# Altium schematic symbol library Loadcell.SCHLIB: 20 symbols
Pins are listed as number, name and electrical type; pins without a type are passive.

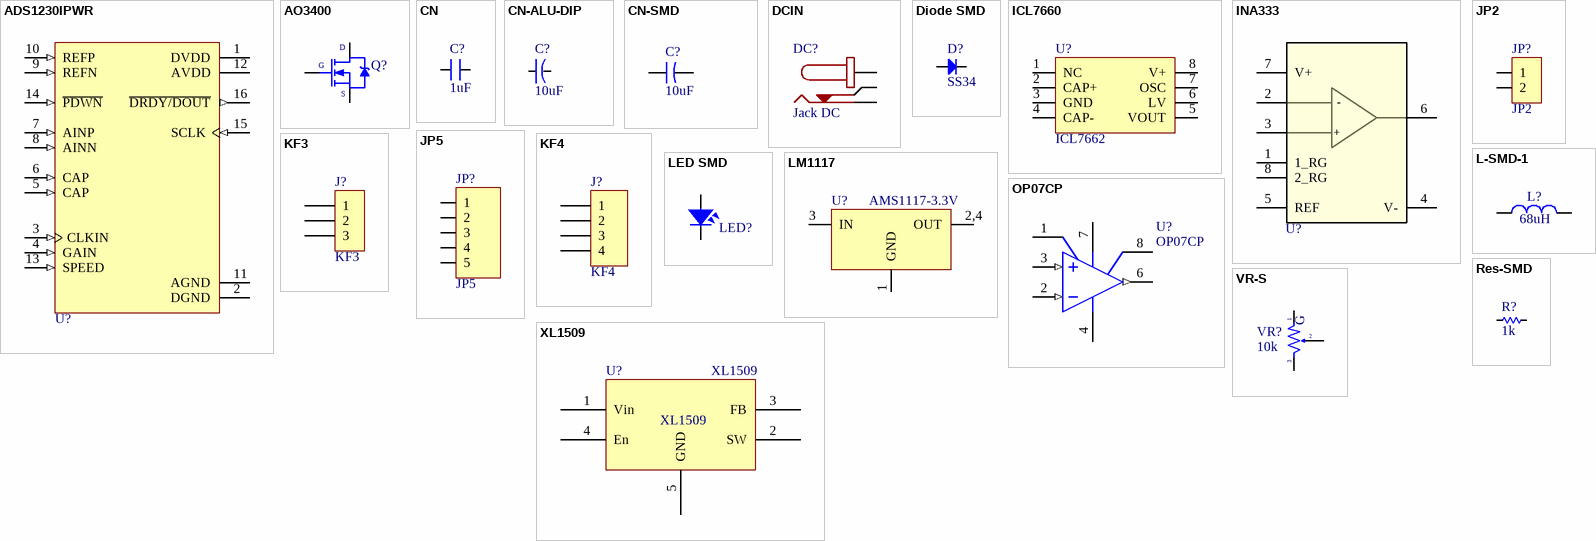
[diagram p0: symbols ADS1230IPWR to XL1509]

## ADS1230IPWR
designator U?  (value not drawn)
footprint TSSOP16 (TSSOP, 16-Leads, Body 5.10x4.40mm, Pitch 0.65mm, IPC High Density)
pins: 1 DVDD (power), 2 DGND (power), 3 CLKIN (in), 4 GAIN (in), 5 CAP (in), 6 CAP (in), 7 AINP (in), 8 AINN (in), 9 REFN (in), 10 REFP (in), 11 AGND (power), 12 AVDD (power), 13 SPEED (in), 14 ~{PDWN} (in), 15 SCLK (in), 16 ~{DRDY/DOUT} (out)

## AO3400
designator Q?  (value not drawn)
N-MOS 30V 5.8A
footprint SOT23-123 (SOT23, 1=bottom-left, 2=top, 3=bottom-right)
pins: 1 G, 2 D, 3 S

## CN
designator C?, comment 1uF
Value: 33pF
footprint CN1.5
footprint CN1
footprint CN2.5 (Tu pin to pin 250mil)
footprint CN3 (Cap np W 0.3)
footprint CN-SMD-0603
footprint CN-SMD-0805
footprint CN-SMD-0402
footprint CN-SMD-1206
footprint CN-SMD-2520 (TOKO INDUCTOR DFE252012 SERIES)
footprint CN-SMD-3225 (Chip Capacitor, Body 3.2x2.5mm, IPC Medium Density)
footprint CN2-T
footprint CN2-G
footprint CN0.8
footprint CN1-TA
footprint CN2-B
footprint CN2-LT
footprint CN2-O
footprint CN2-R
footprint CN2.5-BR (Tu pin to pin 250mil)
footprint CN2.5-R (Tu pin to pin 250mil)
footprint CN2.5-RV (Tu pin to pin 250mil)
footprint CN3.5 (Cap np W 0.3)
footprint CN4
footprint CN7 (Cap np W 0.3)
footprint CN3-B (Cap np W 0.3)
footprint CN7-B (Cap np W 0.3)
footprint CN7-N (Cap np W 0.3)
footprint CN7-Y (Cap np W 0.3)
footprint CN15 (Cap np W 0.3)
pins: 1, 2

## CN-ALU-DIP
designator C?, comment 10uF
Capacitor (Semiconductor SIM Model); Value: 104; LatestRevisionDate: 17-Jul-2002; LatestRevisionNote: Re-released for DXP Platform.; PackageReference: C1206; Publisher: Altium Limited
footprint CA-ALU-2.54
footprint CA-ALU-5 (Polarized capacitors, Aluminum Electrolytic Capacitors, 2-Leads, Body 5x11x2x0.5)
footprint CA-ALU-5B (Polarized capacitors, Aluminum Electrolytic Capacitors, 2-Leads, Body 5x11x2x0.5)
footprint CA-ALU-5L (Polarized capacitors, Aluminum Electrolytic Capacitors, 2-Leads, Body 5x11x2x0.5)
footprint CA-ALU-5R
footprint CA-ALU-5W (Tu hoa < 22uF/16>50V)
footprint CA-ALU-6.3 (Polarized capacitors, Aluminum Electrolytic Capacitors, 2-Leads, Body 6.3x15x2.5x0.5)
footprint CA-ALU-8 (Polarized capacitors, Aluminum Electrolytic Capacitors, 2-Leads, Body 8x16x3.5x0.5)
footprint CA-ALU-8R (Polarized capacitors, Aluminum Electrolytic Capacitors, 2-Leads, Body 8x16x3.5x0.5)
footprint CA-ALU-10 (Polarized capacitors, Aluminum Electrolytic Capacitors, 2-Leads, Body 10x20x5x0.6)
footprint CA-ALU-10R (Polarized capacitors, Aluminum Electrolytic Capacitors, 2-Leads, Body 10x20x5x0.6)
footprint CA-ALU-10RL (Polarized capacitors, Aluminum Electrolytic Capacitors, 2-Leads, Body 10x20x5x0.6)
footprint CA-ALU-13BL (Polarized capacitors, Aluminum Electrolytic Capacitors, 2-Leads, Body 13x35x5x0.6)
footprint CA-ALU-13R (Polarized capacitors, Aluminum Electrolytic Capacitors, 2-Leads, Body 13x35x5x0.6)
footprint CA-ALU-16 (Polarized capacitors, Aluminum Electrolytic Capacitors, 2-Leads, Body 16x21x7.5x0.8)
footprint CA-ALU-16H (Polarized capacitors, Aluminum Electrolytic Capacitors, 2-Leads, Body 16x31.5x7.5x0.8)
footprint CA-ALU-18 (Polarized capacitors, Aluminum Electrolytic Capacitors, 2-Leads, Body 18x35.5x7.5x0.8)
footprint CA-ALU-18BL (Polarized capacitors, Aluminum Electrolytic Capacitors, 2-Leads, Body 18x35.5x7.5x0.8)
footprint CA-ALU-18RH (Polarized capacitors, Aluminum Electrolytic Capacitors, 2-Leads, Body 18x35.5x7.5x0.8)
footprint CA-ALU-25 (Polarized capacitors, Aluminum Electrolytic Capacitors, 2-Leads, Body 22x41x10x0.8)
footprint CA-ALU-28 (Polarized capacitors, Aluminum Electrolytic Capacitors, 2-Leads, Body 22x41x10x0.8)
footprint CA-ALU-30 (Polarized capacitors, Aluminum Electrolytic Capacitors, 2-Leads, Body 22x41x10x0.8)
footprint CA-ALU-35L (Polarized capacitors, Aluminum Electrolytic Capacitors, 2-Leads, Body 22x41x10x0.8)
footprint CA-ALU-4 (Polarized capacitors, Aluminum Electrolytic Capacitors, 2-Leads, Body 5x11x2x0.5)
footprint CA-ALU-6.3R (Polarized capacitors, Aluminum Electrolytic Capacitors, 2-Leads, Body 6.3x15x2.5x0.5)
footprint CA-ALU-10BL (Polarized capacitors, Aluminum Electrolytic Capacitors, 2-Leads, Body 10x20x5x0.6)
footprint CA-ALU-10GR (Polarized capacitors, Aluminum Electrolytic Capacitors, 2-Leads, Body 10x20x5x0.6)
footprint CA-ALU-18R (Polarized capacitors, Aluminum Electrolytic Capacitors, 2-Leads, Body 18x35.5x7.5x0.8)
footprint CA-ALU-28R (Polarized capacitors, Aluminum Electrolytic Capacitors, 2-Leads, Body 22x41x10x0.8)
footprint CA-ALU-10 NGANG (Polarized capacitors, Aluminum Electrolytic Capacitors, 2-Leads, Body 10x20x5x0.6)
footprint CAP-ALU-SMD-4.5x5x1.4
footprint CA-ALU-8 (Polarized capacitors, Aluminum Electrolytic Capacitors, 2-Leads, Body 8x16x3.5x0.5)
footprint CAP-ALU-SMD-F
pins: 1, 2

## CN-SMD
designator C?, comment 10uF
Polarized Capacitor (Axial); Published: 8-Jun-2000; LatestRevisionDate: 17-Jul-2002; LatestRevisionNote: Re-released for DXP Platform.; PackageReference: POLAR0.8; Publisher: Altium Limited
footprint CAP-ALU-SMD-4.5x5x1.4
footprint CAP-ALU-SMD-5x5.5x1.4
footprint CAP-ALU-SMD-5.5x5.5
footprint CAP-ALU-SMD-6.3x7.7x2.2
footprint CAP-ALU-SMD-C
footprint CAP-ALU-SMD-D
footprint CAP-ALU-SMD-F
footprint CAP-ALU-SMD-G
footprint CAP-ALU-SMD-H
footprint CAP-ALU-SMD-J
footprint CAP-ALU-SMD-K
footprint Tantalum 1206 (Tatalum capacitor 1206)
footprint Tantalum 1210 (Tatalum capacitor 1210)
footprint Tantalum 2312 (Tatalum capacitor 2312)
footprint Tantalum 2917 (Tatalum capacitor 2917)
pins: 1, 2
1 alternate drawing of the same symbol

## DCIN
designator DC?, comment Jack DC
Jack DC input; Value: Jac DC
footprint DC0 (Jac DC input)
footprint DC1 (WR-DC_DC Power Jack_Right Angled_THT Center Pin ?0.65_Plug ID ?0.75_Plug OD ?2.35_with Peg)
footprint DC2 (WR-DC_DC Power Jack_Vertical_THT WR-DC_DC Power Jack_Vertical_THT)
footprint DC3 (WR-DC_DC Power Jack_Vertical_THT Center Pin ?2.5_Plug ID ?2.55_Plug OD ?5.5)
footprint DC4 (WR-DC_DC Power Jack_Right Angled_THT Center Pin ?1.0_Plug ID ?1.05_Plug OD ?3.5_with Peg)
footprint DC5 (WR-DC_DC Power Jack_Right Angled_THT Center Pin ?1.3_Plug ID ?1.35_Plug OD ?3.5_with Peg)
footprint DC050
pins: 1 S (power) "Sleeve (Ground)", 2 TN "Tip Normal (Break Contact)", 3 T "Tip"

## Diode SMD
designator D?, comment SS34
Default Diode; Code - JEDEC: DO-214-AB; Value: 1N5007; Published: 8-Jun-2000; Revision: July-2002: Re-released for DXP Platform.; Publisher: Altium Limited
footprint DIO-SMD-106
footprint DIO-SMD-123
footprint DIO-SMD-A
footprint DIO-SMD-B (Magnetic-Core Inductor with Winding Polarity Marking; 2 Leads)
footprint DIO-SMD-216AA (DO216AA ST-MITE)
footprint DIO-SMD-222AA (DO216AA ST-MITE)
footprint DIO-SMD-C
pins: 1 A, 2 K

## ICL7660
designator U?, comment ICL7662
CMOS Voltage Converters; Creator: Nguyen Ba Bien
footprint DIP8
footprint SO8 (SOIC, 8-Leads, Body 4.9x3.9mm, Pitch 1.27mm, IPC High Density)
pins: 1 NC, 2 CAP+, 3 GND, 4 CAP-, 5 VOUT, 6 LV, 7 OSC, 8 V+

## INA333
designator U?, comment Rail-to-Rail Out Instrumentation Amplifier  (value not drawn)
footprint VSSOP8
pins: 1 1_RG, 2 VIN- (hiz), 3 VIN+ (hiz), 4 V- (power), 5 REF, 6 VOUT, 7 V+ (power), 8 2_RG
text: -; +

## JP2
designator JP?
WR-PHD 2.54 mm Angled Socket Header; Manufacturer: W¨¹rth Elektronik eiSos GmbH; partNo: 613002143121; ComponentLink1 Description: Manufacturer; ComponentLink2 Description: Datasheet; NoPins: 02; Created Date: 29 March 2013; ComponentLink1URL: http://www.we-online.com; ComponentLink2URL: http://katalog.we-online.de/em/datasheet/6130xx143121.pdf; Created by: Karrer Zheng
footprint JP2-C1T (2 row, straight, gold plating)
footprint JP2-CLOSED
footprint JP2-C1C (02p 1 row Right angle)
footprint JP2-D1C (2 pins, 1 row, right angled, gold plating)
footprint JP2-D1T (2 pins, 1 row, straight, gold plating)
pins: 1, 2

## JP5
designator JP?
WR-PHD 2.54 mm Angled Socket Header; Manufacturer: W¨¹rth Elektronik eiSos GmbH; partNo: 613005143121; ComponentLink1 Description: Manufacturer; ComponentLink2 Description: Datasheet; NoPins: 05; Created Date: 29 March 2013; ComponentLink1URL: http://www.we-online.com; ComponentLink2URL: http://katalog.we-online.de/em/datasheet/6130xx143121.pdf; Created by: Karrer Zheng
footprint JP5-C1T (5 row, straight, gold plating)
footprint JP5-D1C (5 pins, 1 row, right angled, gold plating)
footprint JP5-C1C (05p 1 row Right angle)
footprint JP5-D1T (5 pins, 1 row, straight, gold plating)
pins: 1, 2, 3, 4, 5

## KF3
designator J?
Manufacturer: Würth Elektronik eiSos GmbH; partNo: 691103110003; ComponentLink1 Description: Manufacturer; ComponentLink2 Description: Datasheet; NoPins: 3; Created Date: 29 October 2013; ComponentLink1URL: http://www.we-online.com; ComponentLink2URL: http://katalog.we-online.de/em/datasheet/6911031100xx.pdf; Created by: Karrer Zheng
footprint KF3-5.08
footprint KF3-10 (Serie 1368 - 10.00 mm _ 3 pins)
footprint KF3-3.5 (3,50mm - modular - blue - Horizontal wire entry - Pressure clamp - 8,4mm height - 03p)
footprint KF3-3.96-T1 (3,96mm - modular - blue - Horizontal wire entry - Pressure clamp - 10mm height - 03p)
footprint KF3-8.5
footprint KF3-5.08T (Header 3, 3 pin, hight 300mil, Pin to Pin 200, Colour Green)
footprint KF3-7.62
footprint KF128-3P
footprint 2EDGR-3P
footprint 2EDGV-3P
pins: 1, 2, 3

## KF4
designator J?
Manufacturer: W¨¹rth Elektronik eiSos GmbH; PartNo: 691133710004; ComponentLink1 Description: Manufacturer; ComponentLink2 Description: Datasheet; NoPins: 4; ComponentLink1 URL: http://www.we-online.com; ComponentLink2 URL: http://katalog.we-online.de/em/datasheet/6911337100xx.pdf; Created By: Baojun Chen; Created Date: 4-Aug-15
footprint KF4-5.08
footprint KF4-10 (Serie 1368 - 10.00 mm _ 4 pins)
footprint KF4-5 (Serie 1337 - 5.00 mm_4 pins)
footprint KF4-8.5
footprint KF4-5.08T (Header 4, 4 pin, hight 300mil, Pin to Pin 200, Colour Green)
footprint KF4-7.62
footprint KF128-4P
footprint 2EDGR-4P
footprint 2EDGV-4P
pins: 1, 2, 3, 4

## L-SMD-1
designator L?, comment 68uH
partNo: 78477010; Manufacturer: Wurth Elektronik; Inductance: 1.0 μH; ComponentLink1Description: Manufacturer; ComponentLink1URL: http://www.we-online.de; Created by: Baojun Chen; Created Date: Nov.2015; ComponentLink2Description: Datasheet; ComponentLink2URL: http://katalog.we-online.de/pbs/datasheet/78477010.pdf
footprint PSM1040 (10x10x4mm)
footprint L-SMD-M-7.3x4.5 (WE-PDA SMD Shielded Power Inductor, 7345)
footprint L-SMD-M-6x6
footprint L-SMD-M-12x10 (WE-PDA SMD Shielded Power Inductor, 1210)
footprint L-SMD-M-12x8
footprint L-SMD-M-10x10
footprint L-SMD-0630 (6.6x6.6)
footprint L-SMD-M-12x12 (WE-PDA SMD Shielded Power Inductor, 1212)
footprint CD54 (5.8 x 5.2 x 4.5 mm)
footprint CD43 (4.5 x 4 x 3.5 mm)
footprint CD73 (7.8 x 7.5 x 3.8 mm)
footprint CD75 (7.8 x 7.5 x 5.2 mm)
footprint CD104 (10 x 9 x 4.2 mm)
footprint CD105 (10 x 9 x 5.8 mm)
pins: 1, 2

## LED SMD
designator LED?, comment LED  (value not drawn)
Value: LED 3 - 5 ly 2 Colour
footprint LED 3512; pin to pad 2>1
footprint LED-0805-Blue
footprint LED-0805-Green
footprint LED-0805-Orange
footprint LED-1206-Blue (Compoment SMD 120x60mil)
footprint LED-0805-Yellow
footprint LED-0805-Red
footprint LED-1206-Green
footprint LED-1206-Orange
footprint LED-1206-Red
footprint LED-1206-Yellow
footprint LED-BLUE 0805
footprint LED-GREEN-0805
footprint LED-ORANGE-0805
footprint LED-RED-0805
footprint LED-WHITE-0805
footprint LED-YELLOW-0805
footprint Led 1W (Led 1,3,5W); pin to pad 2>1
footprint Led 5730 (0.5W led)
footprint LED 3528 USD
footprint LED-0603-Blue
footprint LED-0603-GREEN
footprint LED-0603-ORANGE
footprint LED-0603-RED
footprint LED-0603-YELLOW
footprint LED 3030 BLUE
footprint LED 3030 GREEN
footprint LED 3030 RED
footprint LED 3030 WHITE
footprint LED 3030 YELLOW
pins: 1, 2

## LM1117
designator U?, comment AMS1117-3.3V
800mA Low-Dropout Linear Regulator; Creator: Nguyen Ba Bien; Website: http://group3i.net
footprint SOT223
footprint TO220H1 (TO-220 - 1-2-3)
footprint TO220-123 (TO-220 - 1-2-3)
footprint TO220H2 (TO-220 - 1-2-3)
footprint TO220NH (TO-220 - 1-2-3)
footprint TO220H3 (TO-220 1-2-3)
footprint SOT89-123 (SOT89, 3-Leads, Body 4.55x2.55mm, Pitch 1.50mm, Lead Span 4.1mm, IPC Medium Density)
pins: 1 GND, 2,4 OUT, 3 IN

## OP07CP
designator U?
Ultra-Low Offset Voltage Operational Amplifier; Note: Pin 5 is not connected.; Published: 8-Jun-2000; LatestRevisionDate: 04-Mar-2005; LatestRevisionNote: Stylized 3D Model Added.; DatasheetVersion: 1992; PackageReference: N-8_A; Publisher: Altium Limited; PackageDescription: DIP; 8 Leads; Row Spacing 7.62 mm; Pitch 2.54 mm; Code_JEDEC: MO-001-AN; ComponentLink1Description: Manufacturer Link; ComponentLink1URL: http://www.analog.com/en/prod/0,,759_786_OP07%2C00.html; ComponentLink2Description: Datasheet; ComponentLink2URL: http://www.analog.com/UploadedFiles/Data_Sheets/39161232478959OP07_c.pdf
footprint DIP8
footprint SO8 (SOIC, 8-Leads, Body 4.9x3.9mm, Pitch 1.27mm, IPC High Density)
pins: 1 VOSTRIM, 2 IN- (in), 3 IN+ (in), 4 V- (power), 6 OUT (out), 7 V+ (power), 8 VOSTRIM

## Res-SMD
designator R?, comment 1k
Resistor; Manufacturer: Generic Components; Class: Passive; Published: 08/06/2000; Publisher: Altium Hobart Technology Centre
footprint RES-SMD-0101
footprint RES-SMD-0201
footprint RES-SMD-0603
footprint RES-SMD-0805
footprint RES-SMD-1206
footprint RES-SMD-1210 (Chip Capacitor, Body 3.2x2.5mm, IPC Medium Density)
footprint RES-SMD-1812 (Chip Capacitor, Body 3.2x2.5mm, IPC Medium Density)
footprint RES-SMD-2010 (Chip Capacitor, Body 3.2x2.5mm, IPC Medium Density)
footprint RES-SMD-2512 (Chip Capacitor, Body 3.2x2.5mm, IPC Medium Density)
footprint RES-SMD-0402
pins: 1, 2

## VR-S
designator VR?, comment 10k
Var Resistor; Value: Volume 50k
footprint VR-S4
footprint VR-S1
footprint VR-S2 (Resistor Variable)
footprint VR-S3 (Variable Resistor)
footprint VR 3x3
footprint RK097
footprint VR-S5 (3386P)
pins: 1, 2, 3
text: G

## XL1509
designator U?
footprint SO8 (SOIC, 8-Leads, Body 4.9x3.9mm, Pitch 1.27mm, IPC High Density); pin to pad 5>5+6+7+8
pins: 1 Vin, 2 SW, 3 FB, 4 En, 5 GND